# Altium integrated library ON Semi Signal Management Digital POTs.IntLib: 284 symbols (part 8 of 11)
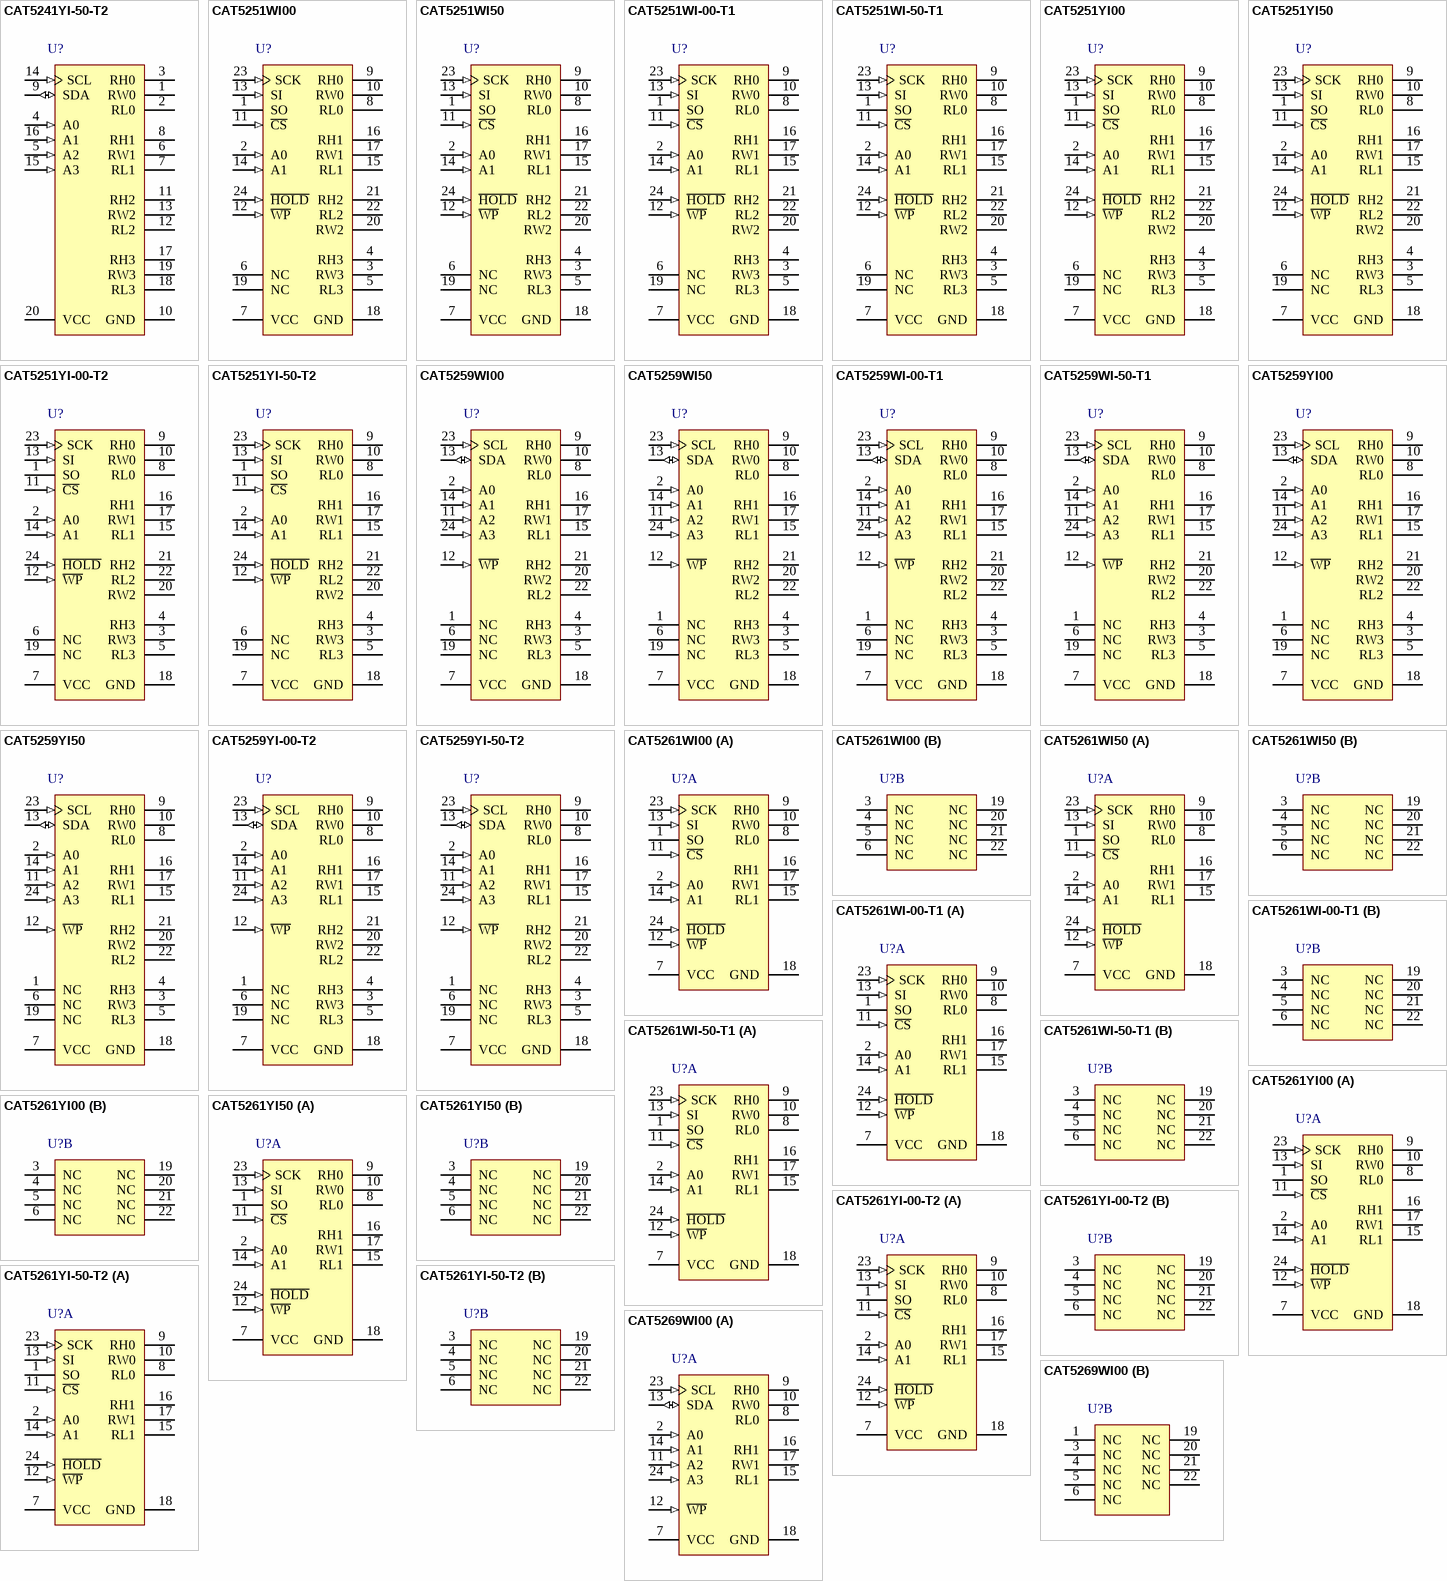
[diagram p16: symbols CAT5241YI-50-T2 to CAT5269WI00]

## CAT5261WI00
designator U?
Dual Digital Potentiometer (POT) with 256 Tap and SPI Interface, -40 to 85 degC, 24-Pin SOIC, Pb-Free, Tube; Manufacturer: On Semiconductor; PartNumber: CAT5261WI00; # of Pots: 2; # of Taps: 256; VDD Max (V): 6; DatasheetVersion: Rev. 8; PackageVersion: Rev. O, 12/2008; PackageReference: SOIC-24-751BK-01; PackageDescription: 24-Pin Small Outline Integrated Circuit, Body 15.3 x 7.47 mm, Pitch 1.27 mm; Supplier 1: Mouser; Supplier Part Number 1: 698-CAT5261WI-00; Control Interface: SPI; Packing: Tube; RoHS: TRUE; Type: Potentiometer; Mounting Technology: Surface Mount; Code_JEDEC: MS-013; ComponentLink1Description: Manufacturer URL; ComponentLink1URL: http://www.onsemi.com/; ComponentLink2Description: Datasheet; ComponentLink2URL: http://www.onsemi.cn/pub_link/Collateral/CAT5261-D.PDF; ComponentLink3Description: Package Specification; ComponentLink3URL: http://www.onsemi.com/pub/Collateral/751BK.PDF
footprint ONSC-SOIC-24-751BK-01_N (SOIC, 24-Leads, Body 15.4x7.6mm, Pitch 1.27mm, IPC Medium Density)
footprint ONSC-SOIC-24-751BK-01_L (SOIC, 24-Leads, Body 15.4x7.6mm, Pitch 1.27mm, IPC High Density)
footprint ONSC-SOIC-24-751BK-01_M (SOIC, 24-Leads, Body 15.4x7.6mm, Pitch 1.27mm, IPC Low Density)
part A pins: 1 SO (hiz) "Serial Data Output", 2 A0 (in) "Device Address, LSB", 7 VCC (power) "Supply Voltage", 8 RL0 "Low Reference Terminal for Potentiometer 0", 9 RH0 "High Reference Terminal for Potentiometer 0", 10 RW0 "Wiper Terminal for Potentiometer 0", 11 ~{CS} (in) "Chip Select", 12 ~{WP} (in) "Write Protection", 13 SI (in) "Serial Input", 14 A1 (in) "Device Address", 15 RL1 "Low Reference Terminal for Potentiometer 1", 16 RH1 "High Reference Terminal for Potentiometer 1", 17 RW1 "Wiper Terminal for Potentiometer 1", 18 GND (power) "Ground", 23 SCK (in) "Bus Serial Clock", 24 ~{HOLD} (in) "Hold"
part B pins: 3 NC "No Connect", 4 NC "No Connect", 5 NC "No Connect", 6 NC "No Connect", 19 NC "No Connect", 20 NC "No Connect", 21 NC "No Connect", 22 NC "No Connect"

## CAT5261WI50
designator U?
Dual Digital Potentiometer (POT) with 256 Tap and SPI Interface, -40 to 85 degC, 24-Pin SOIC, Pb-Free, Tube; Manufacturer: On Semiconductor; PartNumber: CAT5261WI50; # of Pots: 2; # of Taps: 256; VDD Max (V): 6; DatasheetVersion: Rev. 8; PackageVersion: Rev. O, 12/2008; PackageReference: SOIC-24-751BK-01; PackageDescription: 24-Pin Small Outline Integrated Circuit, Body 15.3 x 7.47 mm, Pitch 1.27 mm; Supplier 1: Mouser; Supplier Part Number 1: 698-CAT5261WI-50; Control Interface: SPI; Packing: Tube; RoHS: TRUE; Type: Potentiometer; Mounting Technology: Surface Mount; Code_JEDEC: MS-013; ComponentLink1Description: Manufacturer URL; ComponentLink1URL: http://www.onsemi.com/; ComponentLink2Description: Datasheet; ComponentLink2URL: http://www.onsemi.cn/pub_link/Collateral/CAT5261-D.PDF; ComponentLink3Description: Package Specification; ComponentLink3URL: http://www.onsemi.com/pub/Collateral/751BK.PDF
footprint ONSC-SOIC-24-751BK-01_N (SOIC, 24-Leads, Body 15.4x7.6mm, Pitch 1.27mm, IPC Medium Density)
footprint ONSC-SOIC-24-751BK-01_L (SOIC, 24-Leads, Body 15.4x7.6mm, Pitch 1.27mm, IPC High Density)
footprint ONSC-SOIC-24-751BK-01_M (SOIC, 24-Leads, Body 15.4x7.6mm, Pitch 1.27mm, IPC Low Density)
part A pins: 1 SO (hiz) "Serial Data Output", 2 A0 (in) "Device Address, LSB", 7 VCC (power) "Supply Voltage", 8 RL0 "Low Reference Terminal for Potentiometer 0", 9 RH0 "High Reference Terminal for Potentiometer 0", 10 RW0 "Wiper Terminal for Potentiometer 0", 11 ~{CS} (in) "Chip Select", 12 ~{WP} (in) "Write Protection", 13 SI (in) "Serial Input", 14 A1 (in) "Device Address", 15 RL1 "Low Reference Terminal for Potentiometer 1", 16 RH1 "High Reference Terminal for Potentiometer 1", 17 RW1 "Wiper Terminal for Potentiometer 1", 18 GND (power) "Ground", 23 SCK (in) "Bus Serial Clock", 24 ~{HOLD} (in) "Hold"
part B pins: 3 NC "No Connect", 4 NC "No Connect", 5 NC "No Connect", 6 NC "No Connect", 19 NC "No Connect", 20 NC "No Connect", 21 NC "No Connect", 22 NC "No Connect"

## CAT5261WI-00-T1
designator U?
Dual Digital Potentiometer (POT) with 256 Tap and SPI Interface, -40 to 85 degC, 24-Pin SOIC, Pb-Free, Tape and Reel; Manufacturer: On Semiconductor; PartNumber: CAT5261WI-00-T1; # of Pots: 2; # of Taps: 256; VDD Max (V): 6; DatasheetVersion: Rev. 8; PackageVersion: Rev. O, 12/2008; PackageReference: SOIC-24-751BK-01; PackageDescription: 24-Pin Small Outline Integrated Circuit, Body 15.3 x 7.47 mm, Pitch 1.27 mm; Supplier 1: Mouser; Supplier Part Number 1: 863-CAT5261WI-00-T1; Control Interface: SPI; Packing: Tape and Reel; RoHS: TRUE; Type: Potentiometer; Mounting Technology: Surface Mount; Code_JEDEC: MS-013; ComponentLink1Description: Manufacturer URL; ComponentLink1URL: http://www.onsemi.com/; ComponentLink2Description: Datasheet; ComponentLink2URL: http://www.onsemi.cn/pub_link/Collateral/CAT5261-D.PDF; ComponentLink3Description: Package Specification; ComponentLink3URL: http://www.onsemi.com/pub/Collateral/751BK.PDF
footprint ONSC-SOIC-24-751BK-01_N (SOIC, 24-Leads, Body 15.4x7.6mm, Pitch 1.27mm, IPC Medium Density)
footprint ONSC-SOIC-24-751BK-01_L (SOIC, 24-Leads, Body 15.4x7.6mm, Pitch 1.27mm, IPC High Density)
footprint ONSC-SOIC-24-751BK-01_M (SOIC, 24-Leads, Body 15.4x7.6mm, Pitch 1.27mm, IPC Low Density)
part A pins: 1 SO (hiz) "Serial Data Output", 2 A0 (in) "Device Address, LSB", 7 VCC (power) "Supply Voltage", 8 RL0 "Low Reference Terminal for Potentiometer 0", 9 RH0 "High Reference Terminal for Potentiometer 0", 10 RW0 "Wiper Terminal for Potentiometer 0", 11 ~{CS} (in) "Chip Select", 12 ~{WP} (in) "Write Protection", 13 SI (in) "Serial Input", 14 A1 (in) "Device Address", 15 RL1 "Low Reference Terminal for Potentiometer 1", 16 RH1 "High Reference Terminal for Potentiometer 1", 17 RW1 "Wiper Terminal for Potentiometer 1", 18 GND (power) "Ground", 23 SCK (in) "Bus Serial Clock", 24 ~{HOLD} (in) "Hold"
part B pins: 3 NC "No Connect", 4 NC "No Connect", 5 NC "No Connect", 6 NC "No Connect", 19 NC "No Connect", 20 NC "No Connect", 21 NC "No Connect", 22 NC "No Connect"

## CAT5261WI-50-T1
designator U?
Dual Digital Potentiometer (POT) with 256 Tap and SPI Interface, -40 to 85 degC, 24-Pin SOIC, Pb-Free, Tape and Reel; Manufacturer: On Semiconductor; PartNumber: CAT5261WI-50-T1; # of Pots: 2; # of Taps: 256; VDD Max (V): 6; DatasheetVersion: Rev. 8; PackageVersion: Rev. O, 12/2008; PackageReference: SOIC-24-751BK-01; PackageDescription: 24-Pin Small Outline Integrated Circuit, Body 15.3 x 7.47 mm, Pitch 1.27 mm; Supplier 1: Mouser; Supplier Part Number 1: 863-CAT5261WI-50-T1; Control Interface: SPI; Packing: Tape and Reel; RoHS: TRUE; Type: Potentiometer; Mounting Technology: Surface Mount; Code_JEDEC: MS-013; ComponentLink1Description: Manufacturer URL; ComponentLink1URL: http://www.onsemi.com/; ComponentLink2Description: Datasheet; ComponentLink2URL: http://www.onsemi.cn/pub_link/Collateral/CAT5261-D.PDF; ComponentLink3Description: Package Specification; ComponentLink3URL: http://www.onsemi.com/pub/Collateral/751BK.PDF
footprint ONSC-SOIC-24-751BK-01_N (SOIC, 24-Leads, Body 15.4x7.6mm, Pitch 1.27mm, IPC Medium Density)
footprint ONSC-SOIC-24-751BK-01_L (SOIC, 24-Leads, Body 15.4x7.6mm, Pitch 1.27mm, IPC High Density)
footprint ONSC-SOIC-24-751BK-01_M (SOIC, 24-Leads, Body 15.4x7.6mm, Pitch 1.27mm, IPC Low Density)
part A pins: 1 SO (hiz) "Serial Data Output", 2 A0 (in) "Device Address, LSB", 7 VCC (power) "Supply Voltage", 8 RL0 "Low Reference Terminal for Potentiometer 0", 9 RH0 "High Reference Terminal for Potentiometer 0", 10 RW0 "Wiper Terminal for Potentiometer 0", 11 ~{CS} (in) "Chip Select", 12 ~{WP} (in) "Write Protection", 13 SI (in) "Serial Input", 14 A1 (in) "Device Address", 15 RL1 "Low Reference Terminal for Potentiometer 1", 16 RH1 "High Reference Terminal for Potentiometer 1", 17 RW1 "Wiper Terminal for Potentiometer 1", 18 GND (power) "Ground", 23 SCK (in) "Bus Serial Clock", 24 ~{HOLD} (in) "Hold"
part B pins: 3 NC "No Connect", 4 NC "No Connect", 5 NC "No Connect", 6 NC "No Connect", 19 NC "No Connect", 20 NC "No Connect", 21 NC "No Connect", 22 NC "No Connect"

## CAT5261YI00
designator U?
Dual Digital Potentiometer (POT) with 256 Tap and SPI Interface, -40 to 85 degC, 24-Pin TSSOP, Pb-Free, Tube; Manufacturer: On Semiconductor; PartNumber: CAT5261YI00; # of Pots: 2; # of Taps: 256; VDD Max (V): 6; DatasheetVersion: Rev. 8; PackageVersion: Rev. A, 03/2009; PackageReference: TSSOP-24-948AR-01; PackageDescription: 24-Pin Small Outline Package, Body 7.8 x 4.4 mm, Pitch 0.65 mm; Supplier 1: Mouser; Supplier Part Number 1: 698-CAT5261YI-00; Control Interface: SPI; Packing: Tube; RoHS: TRUE; Type: Potentiometer; Mounting Technology: Surface Mount; Code_JEDEC: MO-153; ComponentLink1Description: Manufacturer URL; ComponentLink1URL: http://www.onsemi.com/; ComponentLink2Description: Datasheet; ComponentLink2URL: http://www.onsemi.cn/pub_link/Collateral/CAT5261-D.PDF; ComponentLink3Description: Package Specification; ComponentLink3URL: http://www.onsemi.com/pub_link/Collateral/948AR.PDF
footprint ONSC-TSSOP-24-948AR-01_N (SOP, 24-Leads, Body 7.9x4.5mm, Pitch 0.65mm, IPC Medium Density)
footprint ONSC-TSSOP-24-948AR-01_L (SOP, 24-Leads, Body 7.9x4.5mm, Pitch 0.65mm, IPC High Density)
footprint ONSC-TSSOP-24-948AR-01_M (SOP, 24-Leads, Body 7.9x4.5mm, Pitch 0.65mm, IPC Low Density)
part A pins: 1 SO (hiz) "Serial Data Output", 2 A0 (in) "Device Address, LSB", 7 VCC (power) "Supply Voltage", 8 RL0 "Low Reference Terminal for Potentiometer 0", 9 RH0 "High Reference Terminal for Potentiometer 0", 10 RW0 "Wiper Terminal for Potentiometer 0", 11 ~{CS} (in) "Chip Select", 12 ~{WP} (in) "Write Protection", 13 SI (in) "Serial Input", 14 A1 (in) "Device Address", 15 RL1 "Low Reference Terminal for Potentiometer 1", 16 RH1 "High Reference Terminal for Potentiometer 1", 17 RW1 "Wiper Terminal for Potentiometer 1", 18 GND (power) "Ground", 23 SCK (in) "Bus Serial Clock", 24 ~{HOLD} (in) "Hold"
part B pins: 3 NC "No Connect", 4 NC "No Connect", 5 NC "No Connect", 6 NC "No Connect", 19 NC "No Connect", 20 NC "No Connect", 21 NC "No Connect", 22 NC "No Connect"

## CAT5261YI50
designator U?
Dual Digital Potentiometer (POT) with 256 Tap and SPI Interface, -40 to 85 degC, 24-Pin TSSOP, Pb-Free, Tube; Manufacturer: On Semiconductor; PartNumber: CAT5261YI50; # of Pots: 2; # of Taps: 256; VDD Max (V): 6; DatasheetVersion: Rev. 8; PackageVersion: Rev. A, 03/2009; PackageReference: TSSOP-24-948AR-01; PackageDescription: 24-Pin Small Outline Package, Body 7.8 x 4.4 mm, Pitch 0.65 mm; Supplier 1: Mouser; Supplier Part Number 1: 698-CAT5261YI-50; Control Interface: SPI; Packing: Tube; RoHS: TRUE; Type: Potentiometer; Mounting Technology: Surface Mount; Code_JEDEC: MO-153; ComponentLink1Description: Manufacturer URL; ComponentLink1URL: http://www.onsemi.com/; ComponentLink2Description: Datasheet; ComponentLink2URL: http://www.onsemi.cn/pub_link/Collateral/CAT5261-D.PDF; ComponentLink3Description: Package Specification; ComponentLink3URL: http://www.onsemi.com/pub_link/Collateral/948AR.PDF
footprint ONSC-TSSOP-24-948AR-01_N (SOP, 24-Leads, Body 7.9x4.5mm, Pitch 0.65mm, IPC Medium Density)
footprint ONSC-TSSOP-24-948AR-01_L (SOP, 24-Leads, Body 7.9x4.5mm, Pitch 0.65mm, IPC High Density)
footprint ONSC-TSSOP-24-948AR-01_M (SOP, 24-Leads, Body 7.9x4.5mm, Pitch 0.65mm, IPC Low Density)
part A pins: 1 SO (hiz) "Serial Data Output", 2 A0 (in) "Device Address, LSB", 7 VCC (power) "Supply Voltage", 8 RL0 "Low Reference Terminal for Potentiometer 0", 9 RH0 "High Reference Terminal for Potentiometer 0", 10 RW0 "Wiper Terminal for Potentiometer 0", 11 ~{CS} (in) "Chip Select", 12 ~{WP} (in) "Write Protection", 13 SI (in) "Serial Input", 14 A1 (in) "Device Address", 15 RL1 "Low Reference Terminal for Potentiometer 1", 16 RH1 "High Reference Terminal for Potentiometer 1", 17 RW1 "Wiper Terminal for Potentiometer 1", 18 GND (power) "Ground", 23 SCK (in) "Bus Serial Clock", 24 ~{HOLD} (in) "Hold"
part B pins: 3 NC "No Connect", 4 NC "No Connect", 5 NC "No Connect", 6 NC "No Connect", 19 NC "No Connect", 20 NC "No Connect", 21 NC "No Connect", 22 NC "No Connect"

## CAT5261YI-00-T2
designator U?
Dual Digital Potentiometer (POT) with 256 Tap and SPI Interface, -40 to 85 degC, 24-Pin TSSOP, Pb-Free, Tape and Reel; Manufacturer: On Semiconductor; PartNumber: CAT5261YI-00-T2; # of Pots: 2; # of Taps: 256; VDD Max (V): 6; DatasheetVersion: Rev. 8; PackageVersion: Rev. A, 03/2009; PackageReference: TSSOP-24-948AR-01; PackageDescription: 24-Pin Small Outline Package, Body 7.8 x 4.4 mm, Pitch 0.65 mm; Supplier 1: Digi-Key; Supplier Part Number 1: CAT5261YI-00-T2-ND; Supplier 2: Mouser; Supplier Part Number 2: 698-CAT5261YI-00-T2; Control Interface: SPI; Packing: Tape and Reel; RoHS: TRUE; Type: Potentiometer; Mounting Technology: Surface Mount; Code_JEDEC: MO-153; ComponentLink1Description: Manufacturer URL; ComponentLink1URL: http://www.onsemi.com/; ComponentLink2Description: Datasheet; ComponentLink2URL: http://www.onsemi.cn/pub_link/Collateral/CAT5261-D.PDF; ComponentLink3Description: Package Specification; ComponentLink3URL: http://www.onsemi.com/pub_link/Collateral/948AR.PDF
footprint ONSC-TSSOP-24-948AR-01_N (SOP, 24-Leads, Body 7.9x4.5mm, Pitch 0.65mm, IPC Medium Density)
footprint ONSC-TSSOP-24-948AR-01_L (SOP, 24-Leads, Body 7.9x4.5mm, Pitch 0.65mm, IPC High Density)
footprint ONSC-TSSOP-24-948AR-01_M (SOP, 24-Leads, Body 7.9x4.5mm, Pitch 0.65mm, IPC Low Density)
part A pins: 1 SO (hiz) "Serial Data Output", 2 A0 (in) "Device Address, LSB", 7 VCC (power) "Supply Voltage", 8 RL0 "Low Reference Terminal for Potentiometer 0", 9 RH0 "High Reference Terminal for Potentiometer 0", 10 RW0 "Wiper Terminal for Potentiometer 0", 11 ~{CS} (in) "Chip Select", 12 ~{WP} (in) "Write Protection", 13 SI (in) "Serial Input", 14 A1 (in) "Device Address", 15 RL1 "Low Reference Terminal for Potentiometer 1", 16 RH1 "High Reference Terminal for Potentiometer 1", 17 RW1 "Wiper Terminal for Potentiometer 1", 18 GND (power) "Ground", 23 SCK (in) "Bus Serial Clock", 24 ~{HOLD} (in) "Hold"
part B pins: 3 NC "No Connect", 4 NC "No Connect", 5 NC "No Connect", 6 NC "No Connect", 19 NC "No Connect", 20 NC "No Connect", 21 NC "No Connect", 22 NC "No Connect"

## CAT5261YI-50-T2
designator U?
Dual Digital Potentiometer (POT) with 256 Tap and SPI Interface, -40 to 85 degC, 24-Pin TSSOP, Pb-Free, Tape and Reel; Manufacturer: On Semiconductor; PartNumber: CAT5261YI-50-T2; # of Pots: 2; # of Taps: 256; VDD Max (V): 6; DatasheetVersion: Rev. 8; PackageVersion: Rev. A, 03/2009; PackageReference: TSSOP-24-948AR-01; PackageDescription: 24-Pin Small Outline Package, Body 7.8 x 4.4 mm, Pitch 0.65 mm; Supplier 1: Mouser; Supplier Part Number 1: 863-CAT5261YI-50-T2; Control Interface: SPI; Packing: Tape and Reel; RoHS: TRUE; Type: Potentiometer; Mounting Technology: Surface Mount; Code_JEDEC: MO-153; ComponentLink1Description: Manufacturer URL; ComponentLink1URL: http://www.onsemi.com/; ComponentLink2Description: Datasheet; ComponentLink2URL: http://www.onsemi.cn/pub_link/Collateral/CAT5261-D.PDF; ComponentLink3Description: Package Specification; ComponentLink3URL: http://www.onsemi.com/pub_link/Collateral/948AR.PDF
footprint ONSC-TSSOP-24-948AR-01_N (SOP, 24-Leads, Body 7.9x4.5mm, Pitch 0.65mm, IPC Medium Density)
footprint ONSC-TSSOP-24-948AR-01_L (SOP, 24-Leads, Body 7.9x4.5mm, Pitch 0.65mm, IPC High Density)
footprint ONSC-TSSOP-24-948AR-01_M (SOP, 24-Leads, Body 7.9x4.5mm, Pitch 0.65mm, IPC Low Density)
part A pins: 1 SO (hiz) "Serial Data Output", 2 A0 (in) "Device Address, LSB", 7 VCC (power) "Supply Voltage", 8 RL0 "Low Reference Terminal for Potentiometer 0", 9 RH0 "High Reference Terminal for Potentiometer 0", 10 RW0 "Wiper Terminal for Potentiometer 0", 11 ~{CS} (in) "Chip Select", 12 ~{WP} (in) "Write Protection", 13 SI (in) "Serial Input", 14 A1 (in) "Device Address", 15 RL1 "Low Reference Terminal for Potentiometer 1", 16 RH1 "High Reference Terminal for Potentiometer 1", 17 RW1 "Wiper Terminal for Potentiometer 1", 18 GND (power) "Ground", 23 SCK (in) "Bus Serial Clock", 24 ~{HOLD} (in) "Hold"
part B pins: 3 NC "No Connect", 4 NC "No Connect", 5 NC "No Connect", 6 NC "No Connect", 19 NC "No Connect", 20 NC "No Connect", 21 NC "No Connect", 22 NC "No Connect"

## CAT5269WI00
designator U?
Dual Digital Potentiometer (POT) with 256 Tap and 2-Wire Interface, -40 to 85 degC, 24-Pin SOIC, Pb-Free, Tube; Manufacturer: On Semiconductor; PartNumber: CAT5269WI00; # of Pots: 2; # of Taps: 256; Control Interface: I2C; VDD Max (V): 6; DatasheetVersion: Rev. 7; PackageVersion: Rev. O, 12/2008; PackageReference: SOIC-24-751BK-01; PackageDescription: 24-Pin Small Outline Integrated Circuit, Body 15.3 x 7.47 mm, Pitch 1.27 mm; Packing: Tube; RoHS: TRUE; Type: Potentiometer; Mounting Technology: Surface Mount; Code_JEDEC: MS-013; ComponentLink1Description: Manufacturer URL; ComponentLink1URL: http://www.onsemi.com/; ComponentLink2Description: Datasheet; ComponentLink2URL: http://www.onsemi.cn/pub_link/Collateral/CAT5269-D.PDF; ComponentLink3Description: Package Specification; ComponentLink3URL: http://www.onsemi.com/pub/Collateral/751BK.PDF
footprint ONSC-SOIC-24-751BK-01_N (SOIC, 24-Leads, Body 15.4x7.6mm, Pitch 1.27mm, IPC Medium Density)
footprint ONSC-SOIC-24-751BK-01_L (SOIC, 24-Leads, Body 15.4x7.6mm, Pitch 1.27mm, IPC High Density)
footprint ONSC-SOIC-24-751BK-01_M (SOIC, 24-Leads, Body 15.4x7.6mm, Pitch 1.27mm, IPC Low Density)
part A pins: 2 A0 (in) "Device Address, LSB", 7 VCC (power) "Supply Voltage", 8 RL0 "Low Reference Terminal for Potentiometer 0", 9 RH0 "High Reference Terminal for Potentiometer 0", 10 RW0 "Wiper Terminal for Potentiometer 0", 11 A2 (in) "Device Address", 12 ~{WP} (in) "Write Protection", 13 SDA (io) "Serial Data Input/Output", 14 A1 (in) "Device Address", 15 RL1 "Low Reference Terminal for Potentiometer 1", 16 RH1 "High Reference Terminal for Potentiometer 1", 17 RW1 "Wiper Terminal for Potentiometer 1", 18 GND (power) "Ground", 23 SCL (in) "Bus Serial Clock", 24 A3 (in) "Device Address"
part B pins: 1 NC "No Connect", 3 NC "No Connect", 4 NC "No Connect", 5 NC "No Connect", 6 NC "No Connect", 19 NC "No Connect", 20 NC "No Connect", 21 NC "No Connect", 22 NC "No Connect"

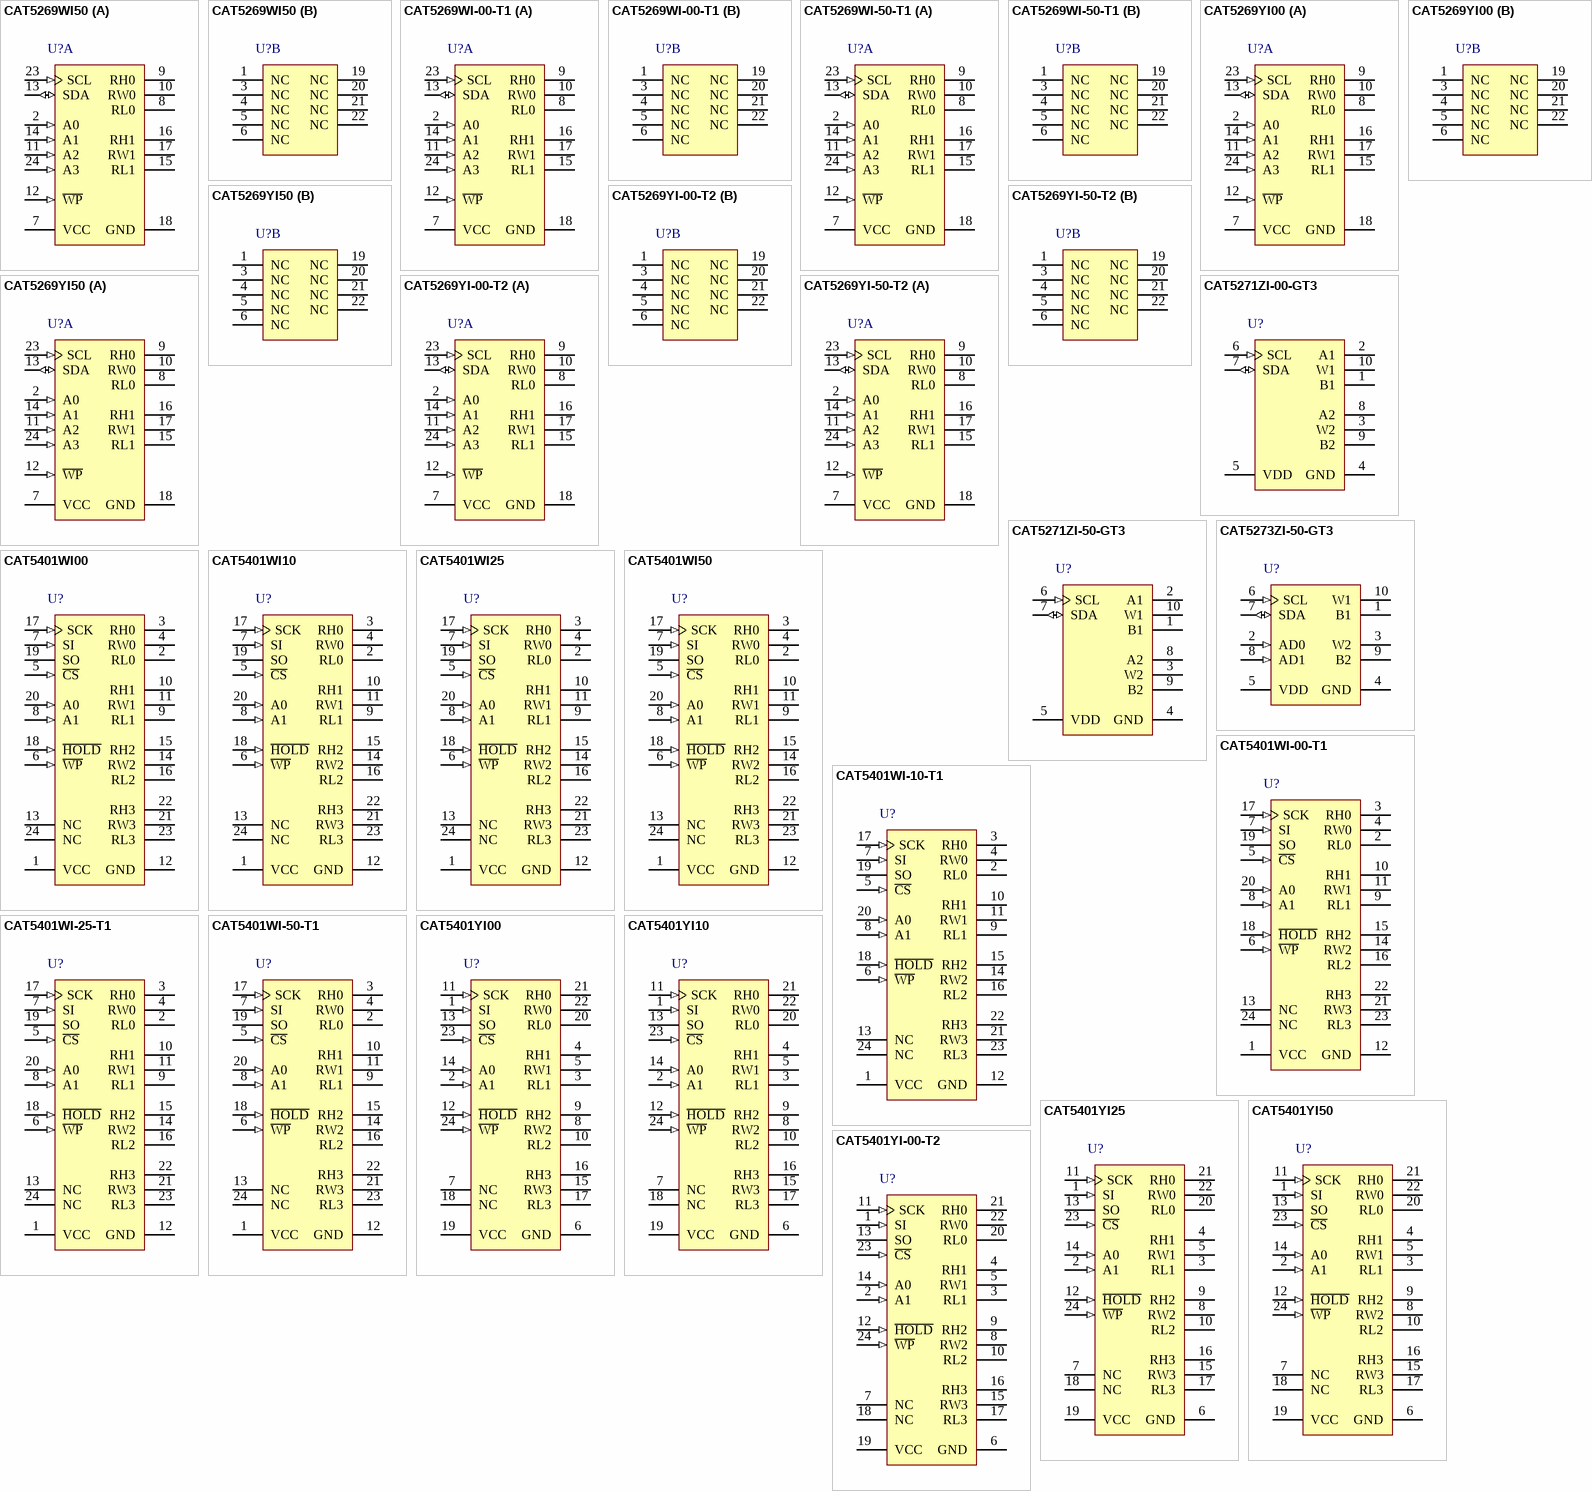
[diagram p6: symbols CAT5269WI50 to CAT5401YI-00-T2]

## CAT5269WI50
designator U?
Dual Digital Potentiometer (POT) with 256 Tap and 2-Wire Interface, -40 to 85 degC, 24-Pin SOIC, Pb-Free, Tube; Manufacturer: On Semiconductor; PartNumber: CAT5269WI50; # of Pots: 2; # of Taps: 256; Control Interface: I2C; VDD Max (V): 6; DatasheetVersion: Rev. 7; PackageVersion: Rev. O, 12/2008; PackageReference: SOIC-24-751BK-01; PackageDescription: 24-Pin Small Outline Integrated Circuit, Body 15.3 x 7.47 mm, Pitch 1.27 mm; Supplier 1: Mouser; Supplier Part Number 1: 698-CAT5269WI-50; Packing: Tube; RoHS: TRUE; Type: Potentiometer; Mounting Technology: Surface Mount; Code_JEDEC: MS-013; ComponentLink1Description: Manufacturer URL; ComponentLink1URL: http://www.onsemi.com/; ComponentLink2Description: Datasheet; ComponentLink2URL: http://www.onsemi.cn/pub_link/Collateral/CAT5269-D.PDF; ComponentLink3Description: Package Specification; ComponentLink3URL: http://www.onsemi.com/pub/Collateral/751BK.PDF
footprint ONSC-SOIC-24-751BK-01_N (SOIC, 24-Leads, Body 15.4x7.6mm, Pitch 1.27mm, IPC Medium Density)
footprint ONSC-SOIC-24-751BK-01_L (SOIC, 24-Leads, Body 15.4x7.6mm, Pitch 1.27mm, IPC High Density)
footprint ONSC-SOIC-24-751BK-01_M (SOIC, 24-Leads, Body 15.4x7.6mm, Pitch 1.27mm, IPC Low Density)
part A pins: 2 A0 (in) "Device Address, LSB", 7 VCC (power) "Supply Voltage", 8 RL0 "Low Reference Terminal for Potentiometer 0", 9 RH0 "High Reference Terminal for Potentiometer 0", 10 RW0 "Wiper Terminal for Potentiometer 0", 11 A2 (in) "Device Address", 12 ~{WP} (in) "Write Protection", 13 SDA (io) "Serial Data Input/Output", 14 A1 (in) "Device Address", 15 RL1 "Low Reference Terminal for Potentiometer 1", 16 RH1 "High Reference Terminal for Potentiometer 1", 17 RW1 "Wiper Terminal for Potentiometer 1", 18 GND (power) "Ground", 23 SCL (in) "Bus Serial Clock", 24 A3 (in) "Device Address"
part B pins: 1 NC "No Connect", 3 NC "No Connect", 4 NC "No Connect", 5 NC "No Connect", 6 NC "No Connect", 19 NC "No Connect", 20 NC "No Connect", 21 NC "No Connect", 22 NC "No Connect"

## CAT5269WI-00-T1
designator U?
Dual Digital Potentiometer (POT) with 256 Tap and 2-Wire Interface, -40 to 85 degC, 24-Pin SOIC, Pb-Free, Tape and Reel; Manufacturer: On Semiconductor; PartNumber: CAT5269WI-00-T1; # of Pots: 2; # of Taps: 256; Control Interface: I2C; VDD Max (V): 6; DatasheetVersion: Rev. 7; PackageVersion: Rev. O, 12/2008; PackageReference: SOIC-24-751BK-01; PackageDescription: 24-Pin Small Outline Integrated Circuit, Body 15.3 x 7.47 mm, Pitch 1.27 mm; Supplier 1: Mouser; Supplier Part Number 1: 863-CAT5269WI-00-T1; Packing: Tape and Reel; RoHS: TRUE; Type: Potentiometer; Mounting Technology: Surface Mount; Code_JEDEC: MS-013; ComponentLink1Description: Manufacturer URL; ComponentLink1URL: http://www.onsemi.com/; ComponentLink2Description: Datasheet; ComponentLink2URL: http://www.onsemi.cn/pub_link/Collateral/CAT5269-D.PDF; ComponentLink3Description: Package Specification; ComponentLink3URL: http://www.onsemi.com/pub/Collateral/751BK.PDF
footprint ONSC-SOIC-24-751BK-01_N (SOIC, 24-Leads, Body 15.4x7.6mm, Pitch 1.27mm, IPC Medium Density)
footprint ONSC-SOIC-24-751BK-01_L (SOIC, 24-Leads, Body 15.4x7.6mm, Pitch 1.27mm, IPC High Density)
footprint ONSC-SOIC-24-751BK-01_M (SOIC, 24-Leads, Body 15.4x7.6mm, Pitch 1.27mm, IPC Low Density)
part A pins: 2 A0 (in) "Device Address, LSB", 7 VCC (power) "Supply Voltage", 8 RL0 "Low Reference Terminal for Potentiometer 0", 9 RH0 "High Reference Terminal for Potentiometer 0", 10 RW0 "Wiper Terminal for Potentiometer 0", 11 A2 (in) "Device Address", 12 ~{WP} (in) "Write Protection", 13 SDA (io) "Serial Data Input/Output", 14 A1 (in) "Device Address", 15 RL1 "Low Reference Terminal for Potentiometer 1", 16 RH1 "High Reference Terminal for Potentiometer 1", 17 RW1 "Wiper Terminal for Potentiometer 1", 18 GND (power) "Ground", 23 SCL (in) "Bus Serial Clock", 24 A3 (in) "Device Address"
part B pins: 1 NC "No Connect", 3 NC "No Connect", 4 NC "No Connect", 5 NC "No Connect", 6 NC "No Connect", 19 NC "No Connect", 20 NC "No Connect", 21 NC "No Connect", 22 NC "No Connect"

## CAT5269WI-50-T1
designator U?
Dual Digital Potentiometer (POT) with 256 Tap and 2-Wire Interface, -40 to 85 degC, 24-Pin SOIC, Pb-Free, Tape and Reel; Manufacturer: On Semiconductor; PartNumber: CAT5269WI-50-T1; # of Pots: 2; # of Taps: 256; Control Interface: I2C; VDD Max (V): 6; DatasheetVersion: Rev. 7; PackageVersion: Rev. O, 12/2008; PackageReference: SOIC-24-751BK-01; PackageDescription: 24-Pin Small Outline Integrated Circuit, Body 15.3 x 7.47 mm, Pitch 1.27 mm; Supplier 1: Mouser; Supplier Part Number 1: 863-CAT5269WI-50-T1; Packing: Tape and Reel; RoHS: TRUE; Type: Potentiometer; Mounting Technology: Surface Mount; Code_JEDEC: MS-013; ComponentLink1Description: Manufacturer URL; ComponentLink1URL: http://www.onsemi.com/; ComponentLink2Description: Datasheet; ComponentLink2URL: http://www.onsemi.cn/pub_link/Collateral/CAT5269-D.PDF; ComponentLink3Description: Package Specification; ComponentLink3URL: http://www.onsemi.com/pub/Collateral/751BK.PDF
footprint ONSC-SOIC-24-751BK-01_N (SOIC, 24-Leads, Body 15.4x7.6mm, Pitch 1.27mm, IPC Medium Density)
footprint ONSC-SOIC-24-751BK-01_L (SOIC, 24-Leads, Body 15.4x7.6mm, Pitch 1.27mm, IPC High Density)
footprint ONSC-SOIC-24-751BK-01_M (SOIC, 24-Leads, Body 15.4x7.6mm, Pitch 1.27mm, IPC Low Density)
part A pins: 2 A0 (in) "Device Address, LSB", 7 VCC (power) "Supply Voltage", 8 RL0 "Low Reference Terminal for Potentiometer 0", 9 RH0 "High Reference Terminal for Potentiometer 0", 10 RW0 "Wiper Terminal for Potentiometer 0", 11 A2 (in) "Device Address", 12 ~{WP} (in) "Write Protection", 13 SDA (io) "Serial Data Input/Output", 14 A1 (in) "Device Address", 15 RL1 "Low Reference Terminal for Potentiometer 1", 16 RH1 "High Reference Terminal for Potentiometer 1", 17 RW1 "Wiper Terminal for Potentiometer 1", 18 GND (power) "Ground", 23 SCL (in) "Bus Serial Clock", 24 A3 (in) "Device Address"
part B pins: 1 NC "No Connect", 3 NC "No Connect", 4 NC "No Connect", 5 NC "No Connect", 6 NC "No Connect", 19 NC "No Connect", 20 NC "No Connect", 21 NC "No Connect", 22 NC "No Connect"

## CAT5269YI00
designator U?
Dual Digital Potentiometer (POT) with 256 Tap and 2-Wire Interface, -40 to 85 degC, 24-Pin TSSOP, Pb-Free, Tube; Manufacturer: On Semiconductor; PartNumber: CAT5269YI00; # of Pots: 2; # of Taps: 256; Control Interface: I2C; VDD Max (V): 6; DatasheetVersion: Rev. 7; PackageVersion: Rev. A, 03/2009; PackageReference: TSSOP-24-948AR-01; PackageDescription: 24-Pin Small Outline Package, Body 7.8 x 4.4 mm, Pitch 0.65 mm; Packing: Tube; RoHS: TRUE; Type: Potentiometer; Mounting Technology: Surface Mount; Code_JEDEC: MO-153; ComponentLink1Description: Manufacturer URL; ComponentLink1URL: http://www.onsemi.com/; ComponentLink2Description: Datasheet; ComponentLink2URL: http://www.onsemi.cn/pub_link/Collateral/CAT5269-D.PDF; ComponentLink3Description: Package Specification; ComponentLink3URL: http://www.onsemi.com/pub_link/Collateral/948AR.PDF
footprint ONSC-TSSOP-24-948AR-01_N (SOP, 24-Leads, Body 7.9x4.5mm, Pitch 0.65mm, IPC Medium Density)
footprint ONSC-TSSOP-24-948AR-01_L (SOP, 24-Leads, Body 7.9x4.5mm, Pitch 0.65mm, IPC High Density)
footprint ONSC-TSSOP-24-948AR-01_M (SOP, 24-Leads, Body 7.9x4.5mm, Pitch 0.65mm, IPC Low Density)
part A pins: 2 A0 (in) "Device Address, LSB", 7 VCC (power) "Supply Voltage", 8 RL0 "Low Reference Terminal for Potentiometer 0", 9 RH0 "High Reference Terminal for Potentiometer 0", 10 RW0 "Wiper Terminal for Potentiometer 0", 11 A2 (in) "Device Address", 12 ~{WP} (in) "Write Protection", 13 SDA (io) "Serial Data Input/Output", 14 A1 (in) "Device Address", 15 RL1 "Low Reference Terminal for Potentiometer 1", 16 RH1 "High Reference Terminal for Potentiometer 1", 17 RW1 "Wiper Terminal for Potentiometer 1", 18 GND (power) "Ground", 23 SCL (in) "Bus Serial Clock", 24 A3 (in) "Device Address"
part B pins: 1 NC "No Connect", 3 NC "No Connect", 4 NC "No Connect", 5 NC "No Connect", 6 NC "No Connect", 19 NC "No Connect", 20 NC "No Connect", 21 NC "No Connect", 22 NC "No Connect"

## CAT5269YI50
designator U?
Dual Digital Potentiometer (POT) with 256 Tap and 2-Wire Interface, -40 to 85 degC, 24-Pin TSSOP, Pb-Free, Tube; Manufacturer: On Semiconductor; PartNumber: CAT5269YI50; # of Pots: 2; # of Taps: 256; Control Interface: I2C; VDD Max (V): 6; DatasheetVersion: Rev. 7; PackageVersion: Rev. A, 03/2009; PackageReference: TSSOP-24-948AR-01; PackageDescription: 24-Pin Small Outline Package, Body 7.8 x 4.4 mm, Pitch 0.65 mm; Supplier 1: Mouser; Supplier Part Number 1: 698-CAT5269YI-50; Packing: Tube; RoHS: TRUE; Type: Potentiometer; Mounting Technology: Surface Mount; Code_JEDEC: MO-153; ComponentLink1Description: Manufacturer URL; ComponentLink1URL: http://www.onsemi.com/; ComponentLink2Description: Datasheet; ComponentLink2URL: http://www.onsemi.cn/pub_link/Collateral/CAT5269-D.PDF; ComponentLink3Description: Package Specification; ComponentLink3URL: http://www.onsemi.com/pub_link/Collateral/948AR.PDF
footprint ONSC-TSSOP-24-948AR-01_N (SOP, 24-Leads, Body 7.9x4.5mm, Pitch 0.65mm, IPC Medium Density)
footprint ONSC-TSSOP-24-948AR-01_L (SOP, 24-Leads, Body 7.9x4.5mm, Pitch 0.65mm, IPC High Density)
footprint ONSC-TSSOP-24-948AR-01_M (SOP, 24-Leads, Body 7.9x4.5mm, Pitch 0.65mm, IPC Low Density)
part A pins: 2 A0 (in) "Device Address, LSB", 7 VCC (power) "Supply Voltage", 8 RL0 "Low Reference Terminal for Potentiometer 0", 9 RH0 "High Reference Terminal for Potentiometer 0", 10 RW0 "Wiper Terminal for Potentiometer 0", 11 A2 (in) "Device Address", 12 ~{WP} (in) "Write Protection", 13 SDA (io) "Serial Data Input/Output", 14 A1 (in) "Device Address", 15 RL1 "Low Reference Terminal for Potentiometer 1", 16 RH1 "High Reference Terminal for Potentiometer 1", 17 RW1 "Wiper Terminal for Potentiometer 1", 18 GND (power) "Ground", 23 SCL (in) "Bus Serial Clock", 24 A3 (in) "Device Address"
part B pins: 1 NC "No Connect", 3 NC "No Connect", 4 NC "No Connect", 5 NC "No Connect", 6 NC "No Connect", 19 NC "No Connect", 20 NC "No Connect", 21 NC "No Connect", 22 NC "No Connect"

## CAT5269YI-00-T2
designator U?
Dual Digital Potentiometer (POT) with 256 Tap and 2-Wire Interface, -40 to 85 degC, 24-Pin TSSOP, Pb-Free, Tape and Reel; Manufacturer: On Semiconductor; PartNumber: CAT5269YI-00-T2; # of Pots: 2; # of Taps: 256; Control Interface: I2C; VDD Max (V): 6; DatasheetVersion: Rev. 7; PackageVersion: Rev. A, 03/2009; PackageReference: TSSOP-24-948AR-01; PackageDescription: 24-Pin Small Outline Package, Body 7.8 x 4.4 mm, Pitch 0.65 mm; Supplier 1: Mouser; Supplier Part Number 1: 863-CAT5269YI-00-T2; Packing: Tape and Reel; RoHS: TRUE; Type: Potentiometer; Mounting Technology: Surface Mount; Code_JEDEC: MO-153; ComponentLink1Description: Manufacturer URL; ComponentLink1URL: http://www.onsemi.com/; ComponentLink2Description: Datasheet; ComponentLink2URL: http://www.onsemi.cn/pub_link/Collateral/CAT5269-D.PDF; ComponentLink3Description: Package Specification; ComponentLink3URL: http://www.onsemi.com/pub_link/Collateral/948AR.PDF
footprint ONSC-TSSOP-24-948AR-01_N (SOP, 24-Leads, Body 7.9x4.5mm, Pitch 0.65mm, IPC Medium Density)
footprint ONSC-TSSOP-24-948AR-01_L (SOP, 24-Leads, Body 7.9x4.5mm, Pitch 0.65mm, IPC High Density)
footprint ONSC-TSSOP-24-948AR-01_M (SOP, 24-Leads, Body 7.9x4.5mm, Pitch 0.65mm, IPC Low Density)
part A pins: 2 A0 (in) "Device Address, LSB", 7 VCC (power) "Supply Voltage", 8 RL0 "Low Reference Terminal for Potentiometer 0", 9 RH0 "High Reference Terminal for Potentiometer 0", 10 RW0 "Wiper Terminal for Potentiometer 0", 11 A2 (in) "Device Address", 12 ~{WP} (in) "Write Protection", 13 SDA (io) "Serial Data Input/Output", 14 A1 (in) "Device Address", 15 RL1 "Low Reference Terminal for Potentiometer 1", 16 RH1 "High Reference Terminal for Potentiometer 1", 17 RW1 "Wiper Terminal for Potentiometer 1", 18 GND (power) "Ground", 23 SCL (in) "Bus Serial Clock", 24 A3 (in) "Device Address"
part B pins: 1 NC "No Connect", 3 NC "No Connect", 4 NC "No Connect", 5 NC "No Connect", 6 NC "No Connect", 19 NC "No Connect", 20 NC "No Connect", 21 NC "No Connect", 22 NC "No Connect"

## CAT5269YI-50-T2
designator U?
Dual Digital Potentiometer (POT) with 256 Tap and 2-Wire Interface, -40 to 85 degC, 24-Pin TSSOP, Pb-Free, Tape and Reel; Manufacturer: On Semiconductor; PartNumber: CAT5269YI-50-T2; # of Pots: 2; # of Taps: 256; Control Interface: I2C; VDD Max (V): 6; DatasheetVersion: Rev. 7; PackageVersion: Rev. A, 03/2009; PackageReference: TSSOP-24-948AR-01; PackageDescription: 24-Pin Small Outline Package, Body 7.8 x 4.4 mm, Pitch 0.65 mm; Packing: Tape and Reel; RoHS: TRUE; Type: Potentiometer; Mounting Technology: Surface Mount; Code_JEDEC: MO-153; ComponentLink1Description: Manufacturer URL; ComponentLink1URL: http://www.onsemi.com/; ComponentLink2Description: Datasheet; ComponentLink2URL: http://www.onsemi.cn/pub_link/Collateral/CAT5269-D.PDF; ComponentLink3Description: Package Specification; ComponentLink3URL: http://www.onsemi.com/pub_link/Collateral/948AR.PDF
footprint ONSC-TSSOP-24-948AR-01_N (SOP, 24-Leads, Body 7.9x4.5mm, Pitch 0.65mm, IPC Medium Density)
footprint ONSC-TSSOP-24-948AR-01_L (SOP, 24-Leads, Body 7.9x4.5mm, Pitch 0.65mm, IPC High Density)
footprint ONSC-TSSOP-24-948AR-01_M (SOP, 24-Leads, Body 7.9x4.5mm, Pitch 0.65mm, IPC Low Density)
part A pins: 2 A0 (in) "Device Address, LSB", 7 VCC (power) "Supply Voltage", 8 RL0 "Low Reference Terminal for Potentiometer 0", 9 RH0 "High Reference Terminal for Potentiometer 0", 10 RW0 "Wiper Terminal for Potentiometer 0", 11 A2 (in) "Device Address", 12 ~{WP} (in) "Write Protection", 13 SDA (io) "Serial Data Input/Output", 14 A1 (in) "Device Address", 15 RL1 "Low Reference Terminal for Potentiometer 1", 16 RH1 "High Reference Terminal for Potentiometer 1", 17 RW1 "Wiper Terminal for Potentiometer 1", 18 GND (power) "Ground", 23 SCL (in) "Bus Serial Clock", 24 A3 (in) "Device Address"
part B pins: 1 NC "No Connect", 3 NC "No Connect", 4 NC "No Connect", 5 NC "No Connect", 6 NC "No Connect", 19 NC "No Connect", 20 NC "No Connect", 21 NC "No Connect", 22 NC "No Connect"

## CAT5271ZI-00-GT3
designator U?
Dual 256-Position I2C Compatible Digital Potentiometer (POT), -40 to 85 degC, 10-Pin MSOP, Pb-Free, Tape and Reel; Manufacturer: On Semiconductor; PartNumber: CAT5271ZI-00-GT3; # of Pots: 2; # of Taps: 256; VDD Max (V): 5.5; DatasheetVersion: Rev. 3; PackageVersion: Rev. O, 12/2008; PackageReference: MSOP-10-846AE-01; PackageDescription: 10-Pin Small Outline Package, Body 3 x 3 mm, Pitch 0.5 mm; Control Interface: I2C; Packing: Tape and Reel; RoHS: TRUE; Type: Potentiometer; Mounting Technology: Surface Mount; Code_JEDEC: MO-187; ComponentLink1Description: Manufacturer URL; ComponentLink1URL: http://www.onsemi.com/; ComponentLink2Description: Datasheet; ComponentLink2URL: http://www.onsemi.cn/pub_link/Collateral/CAT5271-D.PDF; ComponentLink3Description: Package Specification; ComponentLink3URL: http://www.onsemi.com/pub_link/Collateral/846AE.PDF
footprint ONSC-MSOP-10-846AE-01_N (SOP, 10-Leads, Body 3.1x3.1mm, Pitch 0.5mm, IPC Medium Density)
footprint ONSC-MSOP-10-846AE-01_L (SOP, 10-Leads, Body 3.1x3.1mm, Pitch 0.5mm, IPC High Density)
footprint ONSC-MSOP-10-846AE-01_M (SOP, 10-Leads, Body 3.1x3.1mm, Pitch 0.5mm, IPC Low Density)
pins: 1 B1 "B1 Terminal", 2 A1 "A1 Terminal", 3 W2 "W2 Terminal", 4 GND (power) "Digital Ground", 5 VDD (power) "Positive Power Supply", 6 SCL (in) "Serial Clock Input", 7 SDA (io) "Serial Data Input / Output", 8 A2 "A2 Terminal", 9 B2 "B2 Terminal", 10 W1 "W1 Terminal"

## CAT5271ZI-50-GT3
designator U?
Dual 256-Position I2C Compatible Digital Potentiometer (POT), -40 to 85 degC, 10-Pin MSOP, Pb-Free, Tape and Reel; Manufacturer: On Semiconductor; PartNumber: CAT5271ZI-50-GT3; # of Pots: 2; # of Taps: 256; VDD Max (V): 5.5; DatasheetVersion: Rev. 3; PackageVersion: Rev. O, 12/2008; PackageReference: MSOP-10-846AE-01; PackageDescription: 10-Pin Small Outline Package, Body 3 x 3 mm, Pitch 0.5 mm; Supplier 1: Digi-Key; Supplier Part Number 1: CAT5271ZI-50-GT3OSTR-ND; Supplier 2: Digi-Key; Supplier Part Number 2: CAT5271ZI-50-GT3OSCT-ND; Supplier 3: Digi-Key; Supplier Part Number 3: CAT5271ZI-50-GT3OSDKR-ND; Supplier 4: Mouser; Supplier Part Number 4: 863-CAT5271ZI-50-GT3; Control Interface: I2C; Packing: Tape and Reel; RoHS: TRUE; Type: Potentiometer; Mounting Technology: Surface Mount; Code_JEDEC: MO-187; ComponentLink1Description: Manufacturer URL; ComponentLink1URL: http://www.onsemi.com/; ComponentLink2Description: Datasheet; ComponentLink2URL: http://www.onsemi.cn/pub_link/Collateral/CAT5271-D.PDF; ComponentLink3Description: Package Specification; ComponentLink3URL: http://www.onsemi.com/pub_link/Collateral/846AE.PDF
footprint ONSC-MSOP-10-846AE-01_N (SOP, 10-Leads, Body 3.1x3.1mm, Pitch 0.5mm, IPC Medium Density)
footprint ONSC-MSOP-10-846AE-01_L (SOP, 10-Leads, Body 3.1x3.1mm, Pitch 0.5mm, IPC High Density)
footprint ONSC-MSOP-10-846AE-01_M (SOP, 10-Leads, Body 3.1x3.1mm, Pitch 0.5mm, IPC Low Density)
pins: 1 B1 "B1 Terminal", 2 A1 "A1 Terminal", 3 W2 "W2 Terminal", 4 GND (power) "Digital Ground", 5 VDD (power) "Positive Power Supply", 6 SCL (in) "Serial Clock Input", 7 SDA (io) "Serial Data Input / Output", 8 A2 "A2 Terminal", 9 B2 "B2 Terminal", 10 W1 "W1 Terminal"

## CAT5273ZI-50-GT3
designator U?
Dual 256-Position I2C Compatible Digital Potentiometer (POT), -40 to 85 degC, 10-Pin MSOP, Pb-Free, Tape and Reel; Manufacturer: On Semiconductor; PartNumber: CAT5273ZI-50-GT3; # of Pots: 2; # of Taps: 256; VDD Max (V): 5.5; DatasheetVersion: Rev. 3; PackageVersion: Rev. O, 12/2008; PackageReference: MSOP-10-846AE-01; PackageDescription: 10-Pin Small Outline Package, Body 3 x 3 mm, Pitch 0.5 mm; Supplier 1: Digi-Key; Supplier Part Number 1: CAT5273ZI-50-GT3-ND; Supplier 2: Mouser; Supplier Part Number 2: 863-CAT5273ZI-50-GT3; Control Interface: I2C; Packing: Tape and Reel; RoHS: TRUE; Type: Potentiometer; Mounting Technology: Surface Mount; Code_JEDEC: MO-187; ComponentLink1Description: Manufacturer URL; ComponentLink1URL: http://www.onsemi.com/; ComponentLink2Description: Datasheet; ComponentLink2URL: http://www.onsemi.cn/pub_link/Collateral/CAT5273-D.PDF; ComponentLink3Description: Package Specification; ComponentLink3URL: http://www.onsemi.com/pub_link/Collateral/846AE.PDF
footprint ONSC-MSOP-10-846AE-01_N (SOP, 10-Leads, Body 3.1x3.1mm, Pitch 0.5mm, IPC Medium Density)
footprint ONSC-MSOP-10-846AE-01_L (SOP, 10-Leads, Body 3.1x3.1mm, Pitch 0.5mm, IPC High Density)
footprint ONSC-MSOP-10-846AE-01_M (SOP, 10-Leads, Body 3.1x3.1mm, Pitch 0.5mm, IPC Low Density)
pins: 1 B1 "B1 Terminal", 2 AD0 (in) "Device Address Bit 0", 3 W2 "W2 Terminal", 4 GND (power) "Digital Ground", 5 VDD (power) "Positive Power Supply", 6 SCL (in) "Serial Clock Input", 7 SDA (io) "Serial Data Input / Output", 8 AD1 (in) "Device Address Bit 1", 9 B2 "B2 Terminal", 10 W1 "W1 Terminal"

## CAT5401WI00
designator U?
Quad Digital Potentiometer (POT) with 64 Tap and SPI Interface, -40 to 85 degC, 24-Pin SOIC, Pb-Free, Tube; Manufacturer: On Semiconductor; PartNumber: CAT5401WI00; # of Pots: 4; # of Taps: 64; VDD Max (V): 6; DatasheetVersion: Rev. 11; PackageVersion: Rev. O, 12/2008; PackageReference: SOIC-24-751BK-01; PackageDescription: 24-Pin Small Outline Integrated Circuit, Body 15.3 x 7.47 mm, Pitch 1.27 mm; Supplier 1: Mouser; Supplier Part Number 1: 698-CAT5401WI-00; Control Interface: SPI; Packing: Tube; RoHS: TRUE; Type: Potentiometer; Mounting Technology: Surface Mount; Code_JEDEC: MS-013; ComponentLink1Description: Manufacturer URL; ComponentLink1URL: http://www.onsemi.com/; ComponentLink2Description: Datasheet; ComponentLink2URL: http://www.onsemi.cn/pub_link/Collateral/CAT5401-D.PDF; ComponentLink3Description: Package Specification; ComponentLink3URL: http://www.onsemi.com/pub/Collateral/751BK.PDF
footprint ONSC-SOIC-24-751BK-01_N (SOIC, 24-Leads, Body 15.4x7.6mm, Pitch 1.27mm, IPC Medium Density)
footprint ONSC-SOIC-24-751BK-01_L (SOIC, 24-Leads, Body 15.4x7.6mm, Pitch 1.27mm, IPC High Density)
footprint ONSC-SOIC-24-751BK-01_M (SOIC, 24-Leads, Body 15.4x7.6mm, Pitch 1.27mm, IPC Low Density)
pins: 1 VCC (power) "Supply Voltage", 2 RL0 "Low Reference Terminal for Potentiometer 0", 3 RH0 "High Reference Terminal for Potentiometer 0", 4 RW0 "Wiper Terminal for Potentiometer 0", 5 ~{CS} (in) "Chip Select", 6 ~{WP} (in) "Write Protection", 7 SI (in) "Serial Input", 8 A1 (in) "Device Address", 9 RL1 "Low Reference Terminal for Potentiometer 1", 10 RH1 "High Reference Terminal for Potentiometer 1", 11 RW1 "Wiper Terminal for Potentiometer 1", 12 GND (power) "Ground", 13 NC "No Connect", 14 RW2 "Wiper Terminal forPotentiometer 2", 15 RH2 "High Reference Terminal for Potentiometer 2", 16 RL2 "Low Reference Terminal for Potentiometer 2", 17 SCK (in) "Bus Serial Clock", 18 ~{HOLD} (in) "Hold", 19 SO (hiz) "Serial Data Output", 20 A0 (in) "Device Address, LSB", 21 RW3 "Wiper Terminal for Potentiometer 3", 22 RH3 "High Reference Terminal for Potentiometer 3", 23 RL3 "Low Reference Terminal for Potentiometer 3", 24 NC "No Connect"

## CAT5401WI10
designator U?
Quad Digital Potentiometer (POT) with 64 Tap and SPI Interface, -40 to 85 degC, 24-Pin SOIC, Pb-Free, Tube; Manufacturer: On Semiconductor; PartNumber: CAT5401WI10; # of Pots: 4; # of Taps: 64; VDD Max (V): 6; DatasheetVersion: Rev. 11; PackageVersion: Rev. O, 12/2008; PackageReference: SOIC-24-751BK-01; PackageDescription: 24-Pin Small Outline Integrated Circuit, Body 15.3 x 7.47 mm, Pitch 1.27 mm; Supplier 1: Mouser; Supplier Part Number 1: 698-CAT5401WI-10; Control Interface: SPI; Packing: Tube; RoHS: TRUE; Type: Potentiometer; Mounting Technology: Surface Mount; Code_JEDEC: MS-013; ComponentLink1Description: Manufacturer URL; ComponentLink1URL: http://www.onsemi.com/; ComponentLink2Description: Datasheet; ComponentLink2URL: http://www.onsemi.cn/pub_link/Collateral/CAT5401-D.PDF; ComponentLink3Description: Package Specification; ComponentLink3URL: http://www.onsemi.com/pub/Collateral/751BK.PDF
footprint ONSC-SOIC-24-751BK-01_N (SOIC, 24-Leads, Body 15.4x7.6mm, Pitch 1.27mm, IPC Medium Density)
footprint ONSC-SOIC-24-751BK-01_L (SOIC, 24-Leads, Body 15.4x7.6mm, Pitch 1.27mm, IPC High Density)
footprint ONSC-SOIC-24-751BK-01_M (SOIC, 24-Leads, Body 15.4x7.6mm, Pitch 1.27mm, IPC Low Density)
pins: 1 VCC (power) "Supply Voltage", 2 RL0 "Low Reference Terminal for Potentiometer 0", 3 RH0 "High Reference Terminal for Potentiometer 0", 4 RW0 "Wiper Terminal for Potentiometer 0", 5 ~{CS} (in) "Chip Select", 6 ~{WP} (in) "Write Protection", 7 SI (in) "Serial Input", 8 A1 (in) "Device Address", 9 RL1 "Low Reference Terminal for Potentiometer 1", 10 RH1 "High Reference Terminal for Potentiometer 1", 11 RW1 "Wiper Terminal for Potentiometer 1", 12 GND (power) "Ground", 13 NC "No Connect", 14 RW2 "Wiper Terminal forPotentiometer 2", 15 RH2 "High Reference Terminal for Potentiometer 2", 16 RL2 "Low Reference Terminal for Potentiometer 2", 17 SCK (in) "Bus Serial Clock", 18 ~{HOLD} (in) "Hold", 19 SO (hiz) "Serial Data Output", 20 A0 (in) "Device Address, LSB", 21 RW3 "Wiper Terminal for Potentiometer 3", 22 RH3 "High Reference Terminal for Potentiometer 3", 23 RL3 "Low Reference Terminal for Potentiometer 3", 24 NC "No Connect"

## CAT5401WI25
designator U?
Quad Digital Potentiometer (POT) with 64 Tap and SPI Interface, -40 to 85 degC, 24-Pin SOIC, Pb-Free, Tube; Manufacturer: On Semiconductor; PartNumber: CAT5401WI25; # of Pots: 4; # of Taps: 64; VDD Max (V): 6; DatasheetVersion: Rev. 11; PackageVersion: Rev. O, 12/2008; PackageReference: SOIC-24-751BK-01; PackageDescription: 24-Pin Small Outline Integrated Circuit, Body 15.3 x 7.47 mm, Pitch 1.27 mm; Supplier 1: Mouser; Supplier Part Number 1: 698-CAT5401WI-25; Control Interface: SPI; Packing: Tube; RoHS: TRUE; Type: Potentiometer; Mounting Technology: Surface Mount; Code_JEDEC: MS-013; ComponentLink1Description: Manufacturer URL; ComponentLink1URL: http://www.onsemi.com/; ComponentLink2Description: Datasheet; ComponentLink2URL: http://www.onsemi.cn/pub_link/Collateral/CAT5401-D.PDF; ComponentLink3Description: Package Specification; ComponentLink3URL: http://www.onsemi.com/pub/Collateral/751BK.PDF
footprint ONSC-SOIC-24-751BK-01_N (SOIC, 24-Leads, Body 15.4x7.6mm, Pitch 1.27mm, IPC Medium Density)
footprint ONSC-SOIC-24-751BK-01_L (SOIC, 24-Leads, Body 15.4x7.6mm, Pitch 1.27mm, IPC High Density)
footprint ONSC-SOIC-24-751BK-01_M (SOIC, 24-Leads, Body 15.4x7.6mm, Pitch 1.27mm, IPC Low Density)
pins: 1 VCC (power) "Supply Voltage", 2 RL0 "Low Reference Terminal for Potentiometer 0", 3 RH0 "High Reference Terminal for Potentiometer 0", 4 RW0 "Wiper Terminal for Potentiometer 0", 5 ~{CS} (in) "Chip Select", 6 ~{WP} (in) "Write Protection", 7 SI (in) "Serial Input", 8 A1 (in) "Device Address", 9 RL1 "Low Reference Terminal for Potentiometer 1", 10 RH1 "High Reference Terminal for Potentiometer 1", 11 RW1 "Wiper Terminal for Potentiometer 1", 12 GND (power) "Ground", 13 NC "No Connect", 14 RW2 "Wiper Terminal forPotentiometer 2", 15 RH2 "High Reference Terminal for Potentiometer 2", 16 RL2 "Low Reference Terminal for Potentiometer 2", 17 SCK (in) "Bus Serial Clock", 18 ~{HOLD} (in) "Hold", 19 SO (hiz) "Serial Data Output", 20 A0 (in) "Device Address, LSB", 21 RW3 "Wiper Terminal for Potentiometer 3", 22 RH3 "High Reference Terminal for Potentiometer 3", 23 RL3 "Low Reference Terminal for Potentiometer 3", 24 NC "No Connect"

## CAT5401WI50
designator U?
Quad Digital Potentiometer (POT) with 64 Tap and SPI Interface, -40 to 85 degC, 24-Pin SOIC, Pb-Free, Tube; Manufacturer: On Semiconductor; PartNumber: CAT5401WI50; # of Pots: 4; # of Taps: 64; VDD Max (V): 6; DatasheetVersion: Rev. 11; PackageVersion: Rev. O, 12/2008; PackageReference: SOIC-24-751BK-01; PackageDescription: 24-Pin Small Outline Integrated Circuit, Body 15.3 x 7.47 mm, Pitch 1.27 mm; Supplier 1: Mouser; Supplier Part Number 1: 698-CAT5401WI-50; Control Interface: SPI; Packing: Tube; RoHS: TRUE; Type: Potentiometer; Mounting Technology: Surface Mount; Code_JEDEC: MS-013; ComponentLink1Description: Manufacturer URL; ComponentLink1URL: http://www.onsemi.com/; ComponentLink2Description: Datasheet; ComponentLink2URL: http://www.onsemi.cn/pub_link/Collateral/CAT5401-D.PDF; ComponentLink3Description: Package Specification; ComponentLink3URL: http://www.onsemi.com/pub/Collateral/751BK.PDF
footprint ONSC-SOIC-24-751BK-01_N (SOIC, 24-Leads, Body 15.4x7.6mm, Pitch 1.27mm, IPC Medium Density)
footprint ONSC-SOIC-24-751BK-01_L (SOIC, 24-Leads, Body 15.4x7.6mm, Pitch 1.27mm, IPC High Density)
footprint ONSC-SOIC-24-751BK-01_M (SOIC, 24-Leads, Body 15.4x7.6mm, Pitch 1.27mm, IPC Low Density)
pins: 1 VCC (power) "Supply Voltage", 2 RL0 "Low Reference Terminal for Potentiometer 0", 3 RH0 "High Reference Terminal for Potentiometer 0", 4 RW0 "Wiper Terminal for Potentiometer 0", 5 ~{CS} (in) "Chip Select", 6 ~{WP} (in) "Write Protection", 7 SI (in) "Serial Input", 8 A1 (in) "Device Address", 9 RL1 "Low Reference Terminal for Potentiometer 1", 10 RH1 "High Reference Terminal for Potentiometer 1", 11 RW1 "Wiper Terminal for Potentiometer 1", 12 GND (power) "Ground", 13 NC "No Connect", 14 RW2 "Wiper Terminal forPotentiometer 2", 15 RH2 "High Reference Terminal for Potentiometer 2", 16 RL2 "Low Reference Terminal for Potentiometer 2", 17 SCK (in) "Bus Serial Clock", 18 ~{HOLD} (in) "Hold", 19 SO (hiz) "Serial Data Output", 20 A0 (in) "Device Address, LSB", 21 RW3 "Wiper Terminal for Potentiometer 3", 22 RH3 "High Reference Terminal for Potentiometer 3", 23 RL3 "Low Reference Terminal for Potentiometer 3", 24 NC "No Connect"

## CAT5401WI-00-T1
designator U?
Quad Digital Potentiometer (POT) with 64 Tap and SPI Interface, -40 to 85 degC, 24-Pin SOIC, Pb-Free, Tape and Reel; Manufacturer: On Semiconductor; PartNumber: CAT5401WI-00-T1; # of Pots: 4; # of Taps: 64; VDD Max (V): 6; DatasheetVersion: Rev. 11; PackageVersion: Rev. O, 12/2008; PackageReference: SOIC-24-751BK-01; PackageDescription: 24-Pin Small Outline Integrated Circuit, Body 15.3 x 7.47 mm, Pitch 1.27 mm; Supplier 1: Digi-Key; Supplier Part Number 1: CAT5401WI-00-T1-ND; Supplier 2: Mouser; Supplier Part Number 2: 698-CAT5401WI-00-T1; Control Interface: SPI; Packing: Tape and Reel; RoHS: TRUE; Type: Potentiometer; Mounting Technology: Surface Mount; Code_JEDEC: MS-013; ComponentLink1Description: Manufacturer URL; ComponentLink1URL: http://www.onsemi.com/; ComponentLink2Description: Datasheet; ComponentLink2URL: http://www.onsemi.cn/pub_link/Collateral/CAT5401-D.PDF; ComponentLink3Description: Package Specification; ComponentLink3URL: http://www.onsemi.com/pub/Collateral/751BK.PDF
footprint ONSC-SOIC-24-751BK-01_N (SOIC, 24-Leads, Body 15.4x7.6mm, Pitch 1.27mm, IPC Medium Density)
footprint ONSC-SOIC-24-751BK-01_L (SOIC, 24-Leads, Body 15.4x7.6mm, Pitch 1.27mm, IPC High Density)
footprint ONSC-SOIC-24-751BK-01_M (SOIC, 24-Leads, Body 15.4x7.6mm, Pitch 1.27mm, IPC Low Density)
pins: 1 VCC (power) "Supply Voltage", 2 RL0 "Low Reference Terminal for Potentiometer 0", 3 RH0 "High Reference Terminal for Potentiometer 0", 4 RW0 "Wiper Terminal for Potentiometer 0", 5 ~{CS} (in) "Chip Select", 6 ~{WP} (in) "Write Protection", 7 SI (in) "Serial Input", 8 A1 (in) "Device Address", 9 RL1 "Low Reference Terminal for Potentiometer 1", 10 RH1 "High Reference Terminal for Potentiometer 1", 11 RW1 "Wiper Terminal for Potentiometer 1", 12 GND (power) "Ground", 13 NC "No Connect", 14 RW2 "Wiper Terminal forPotentiometer 2", 15 RH2 "High Reference Terminal for Potentiometer 2", 16 RL2 "Low Reference Terminal for Potentiometer 2", 17 SCK (in) "Bus Serial Clock", 18 ~{HOLD} (in) "Hold", 19 SO (hiz) "Serial Data Output", 20 A0 (in) "Device Address, LSB", 21 RW3 "Wiper Terminal for Potentiometer 3", 22 RH3 "High Reference Terminal for Potentiometer 3", 23 RL3 "Low Reference Terminal for Potentiometer 3", 24 NC "No Connect"